# Altium integrated library TSW-105-07-F-S.IntLib: 1 symbol
Pins are listed as number, name and electrical type; pins without a type are passive.

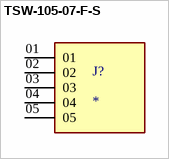
[diagram p0: symbol TSW-105-07-F-S]

## TSW-105-07-F-S
designator J?
MF: Samtec; MP: TSW-105-07-F-S; Value: *; Price: None; Availability: Unavailable; Package: None
footprint SAMTEC_TSW-105-07-F-S
pins: 01, 02, 03, 04, 05